# EAGLE library part LT1679 (library my-linear)
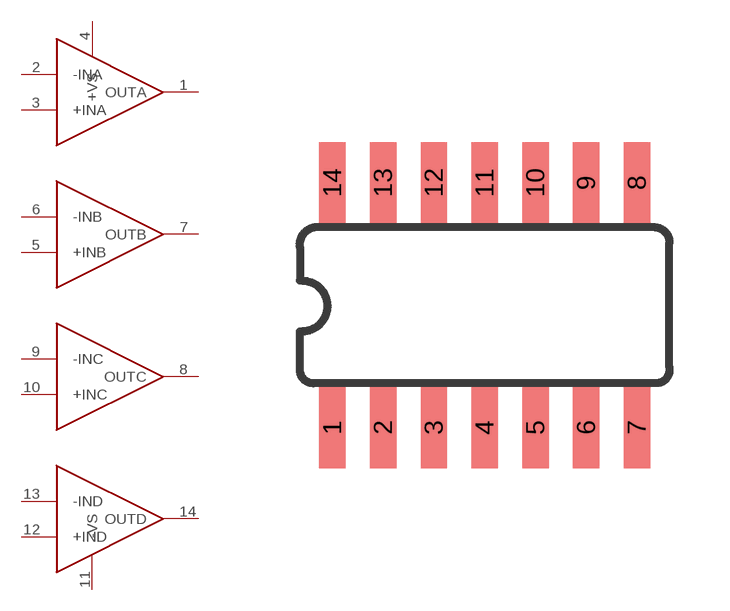
[diagram p3: symbol with the pads of 14-SOIC; footprint 14-SOIC]

Designator prefix -

## LT167914SOIC  [14-SOIC]
1  OUTA
2  -INA
3  +INA
4  +VS
5  +INB
6  -INB
7  OUTB
8  OUTC
9  -INC
10  +INC
11  -VS
12  +IND
13  -IND
14  OUTD

## Footprint 14-SOIC (pad centres in mm)
smd 0.66 x 2.032: 1 -3.175,-3.061; 2 -1.905,-3.061; 3 -0.635,-3.061; 4 0.635,-3.061; 5 1.905,-3.061; 6 3.175,-3.061; 7 4.445,-3.061; 8 4.445,3.061; 9 3.175,3.061; 10 1.905,3.061; 11 0.635,3.061; 12 -0.635,3.061; 13 -1.905,3.061; 14 -3.175,3.061